# Altium footprint library TO-92_29-04.PcbLib: 1 footprints
Each footprint in its own frame and in the unit in brackets; x right, y up, seen from the top. Pads: shape width x height; smd on the part's side, far side on the other; paste and mask are expansions set on the pad; w line width, h text height; cw(c..) or ccw(c..) is an arc to the next point about the centre after c.
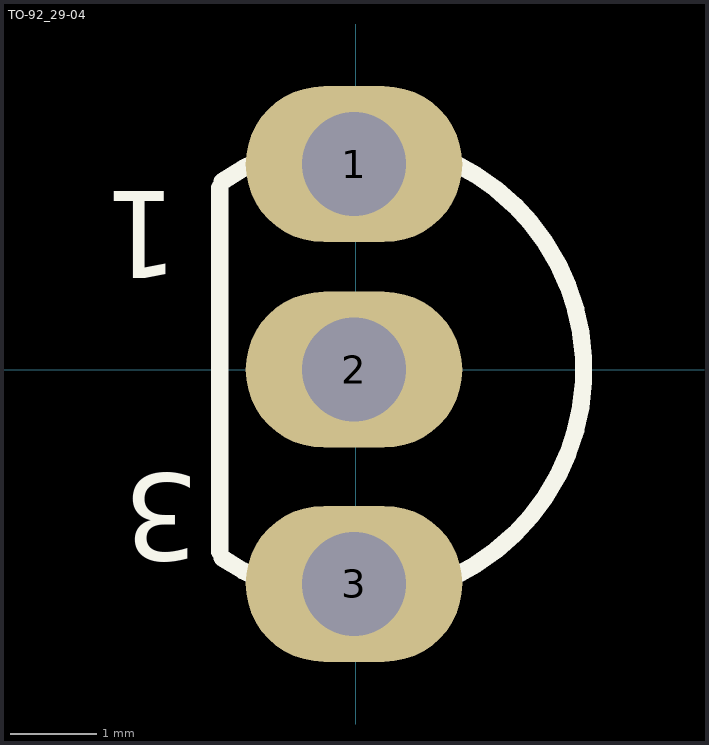
[diagram p0: the footprint, top view; thin cyan lines are the x and y axes]

## TO-92_29-04 [mm] "TO, Flat Index; 3 In-Line, Axial Leads; Body Dia. 4.8mm; Leads 0.48 x 0.51 mm (max)"
height 5.33
pads (3):
  oval 2.5x1.8 hole 1.2: 1(-0.018,2.37) 2(-0.018,0) 3(-0.018,-2.47)
Top Overlay:
  lines w0.2: -1.568,-2.1 -1.568,2.1 ; -1.538,-2.171 ccw(c-0.018,0) -1.538,2.171
  text "3" at -1.8,-1.2 h1
  text "1" at -2.038,2.061 h1
3D body "TO-92 Formed Leads.stp": height 8.58, standoff -3, extent -1.21,-2.87 2.35,2.67